# Altium footprint library SnapEDApcb.PcbLib: 1 footprints
Each footprint in its own frame and in the unit in brackets; x right, y up, seen from the top. Pads: shape width x height; smd on the part's side, far side on the other; paste and mask are expansions set on the pad; w line width, h text height; cw(c..) or ccw(c..) is an arc to the next point about the centre after c.
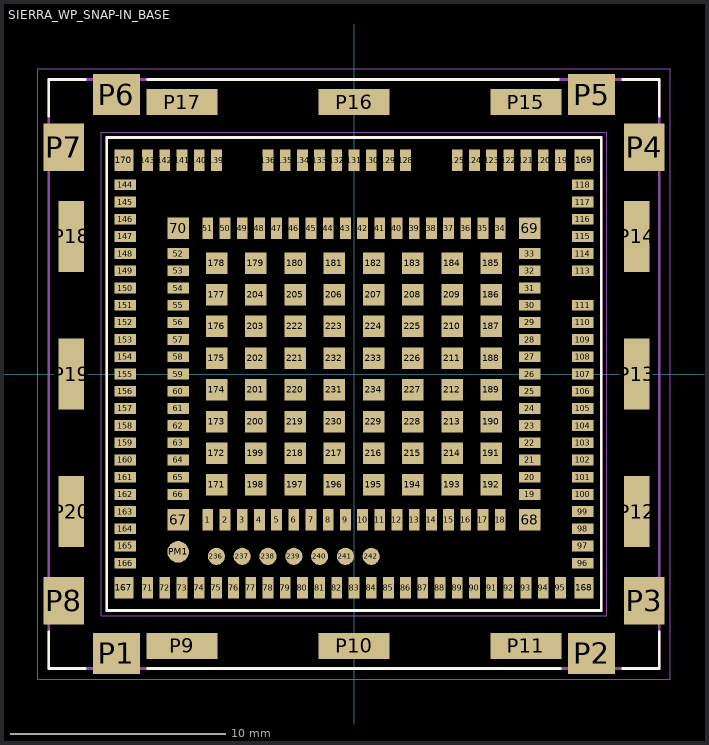
[diagram p0: the footprint, top view; thin cyan lines are the x and y axes]

## SIERRA_WP_SNAP-IN_BASE [mm]
pads (257):
  rect 0.5x1 smd paste-1: 1(-6.8,-6.78) 2(-6,-6.78) 3(-5.2,-6.78) 4(-4.4,-6.78) 5(-3.6,-6.78) 6(-2.8,-6.78) 7(-2,-6.78) 8(-1.2,-6.78) 9(-0.4,-6.78) 10(0.4,-6.78) 11(1.2,-6.78) 12(2,-6.78) 13(2.8,-6.78) 14(3.6,-6.78) 15(4.4,-6.78) 16(5.2,-6.78) 17(6,-6.78) 18(6.8,-6.78) 34(6.8,6.78) 35(6,6.78) 36(5.2,6.78) 37(4.4,6.78) 38(3.6,6.78) 39(2.8,6.78) 40(2,6.78) 41(1.2,6.78) 42(0.4,6.78) 43(-0.4,6.78) 44(-1.2,6.78) 45(-2,6.78) 46(-2.8,6.78) 47(-3.6,6.78) 48(-4.4,6.78) 49(-5.2,6.78) 50(-6,6.78) 51(-6.8,6.78) 71(-9.6,-9.95) 72(-8.8,-9.95) 73(-8,-9.95) 74(-7.2,-9.95) 75(-6.4,-9.95) 76(-5.6,-9.95) 77(-4.8,-9.95) 78(-4,-9.95) 79(-3.2,-9.95) 80(-2.4,-9.95) 81(-1.6,-9.95) 82(-0.8,-9.95) 83(0,-9.95) 84(0.8,-9.95) 85(1.6,-9.95) 86(2.4,-9.95) 87(3.2,-9.95) 88(4,-9.95) 89(4.8,-9.95) 90(5.6,-9.95) 91(6.4,-9.95) 92(7.2,-9.95) 93(8,-9.95) 94(8.8,-9.95) 95(9.6,-9.95) 119(9.6,9.95) 120(8.8,9.95) 121(8,9.95) 122(7.2,9.95) 123(6.4,9.95) 124(5.6,9.95) 125(4.8,9.95) 128(2.4,9.95) 129(1.6,9.95) 130(0.8,9.95) 131(0,9.95) 132(-0.8,9.95) 133(-1.6,9.95) 134(-2.4,9.95) 135(-3.2,9.95) 136(-4,9.95) 139(-6.4,9.95) 140(-7.2,9.95) 141(-8,9.95) 142(-8.8,9.95) 143(-9.6,9.95)
  rect 1x0.5 smd paste-1: 19(8.18,-5.6) 20(8.18,-4.8) 21(8.18,-4) 22(8.18,-3.2) 23(8.18,-2.4) 24(8.18,-1.6) 25(8.18,-0.8) 26(8.18,0) 27(8.18,0.8) 28(8.18,1.6) 29(8.18,2.4) 30(8.18,3.2) 31(8.18,4) 32(8.18,4.8) 33(8.18,5.6) 52(-8.18,5.6) 53(-8.18,4.8) 54(-8.18,4) 55(-8.18,3.2) 56(-8.18,2.4) 57(-8.18,1.6) 58(-8.18,0.8) 59(-8.18,0) 60(-8.18,-0.8) 61(-8.18,-1.6) 62(-8.18,-2.4) 63(-8.18,-3.2) 64(-8.18,-4) 65(-8.18,-4.8) 66(-8.18,-5.6) 96(10.65,-8.8) 97(10.65,-8) 98(10.65,-7.2) 99(10.65,-6.4) 100(10.65,-5.6) 101(10.65,-4.8) 102(10.65,-4) 103(10.65,-3.2) 104(10.65,-2.4) 105(10.65,-1.6) 106(10.65,-0.8) 107(10.65,0) 108(10.65,0.8) 109(10.65,1.6) 110(10.65,2.4) 111(10.65,3.2) 113(10.65,4.8) 114(10.65,5.6) 115(10.65,6.4) 116(10.65,7.2) 117(10.65,8) 118(10.65,8.8) 144(-10.65,8.8) 145(-10.65,8) 146(-10.65,7.2) 147(-10.65,6.4) 148(-10.65,5.6) 149(-10.65,4.8) 150(-10.65,4) 151(-10.65,3.2) 152(-10.65,2.4) 153(-10.65,1.6) 154(-10.65,0.8) 155(-10.65,0) 156(-10.65,-0.8) 157(-10.65,-1.6) 158(-10.65,-2.4) 159(-10.65,-3.2) 160(-10.65,-4) 161(-10.65,-4.8) 162(-10.65,-5.6) 163(-10.65,-6.4) 164(-10.65,-7.2) 165(-10.65,-8) 166(-10.65,-8.8)
  rect 1x1 smd paste-1: 67(-8.18,-6.78) 68(8.18,-6.78) 69(8.18,6.78) 70(-8.18,6.78) 171(-6.388,-5.162) 172(-6.388,-3.688) 173(-6.388,-2.213) 174(-6.388,-0.737) 175(-6.388,0.737) 176(-6.388,2.213) 177(-6.388,3.688) 178(-6.388,5.162) 179(-4.563,5.162) 180(-2.738,5.162) 181(-0.913,5.162) 182(0.913,5.162) 183(2.738,5.162) 184(4.563,5.162) 185(6.388,5.162) 186(6.388,3.688) 187(6.388,2.213) 188(6.388,0.737) 189(6.388,-0.737) 190(6.388,-2.213) 191(6.388,-3.688) 192(6.388,-5.162) 193(4.563,-5.162) 194(2.738,-5.162) 195(0.913,-5.162) 196(-0.913,-5.162) 197(-2.738,-5.162) 198(-4.563,-5.162) 199(-4.563,-3.688) 200(-4.563,-2.213) 201(-4.563,-0.737) 202(-4.563,0.737) 203(-4.563,2.213) 204(-4.563,3.688) 205(-2.738,3.688) 206(-0.913,3.688) 207(0.913,3.688) 208(2.738,3.688) 209(4.563,3.688) 210(4.563,2.213) 211(4.563,0.737) 212(4.563,-0.737) 213(4.563,-2.213) 214(4.563,-3.688) 215(2.738,-3.688) 216(0.913,-3.688) 217(-0.913,-3.688) 218(-2.738,-3.688) 219(-2.738,-2.213) 220(-2.738,-0.737) 221(-2.738,0.737) 222(-2.738,2.213) 223(-0.913,2.213) 224(0.913,2.213) 225(2.738,2.213) 226(2.738,0.737) 227(2.738,-0.737) 228(2.738,-2.213) 229(0.913,-2.213) 230(-0.913,-2.213) 231(-0.913,-0.737) 232(-0.913,0.737) 233(0.913,0.737) 234(0.913,-0.737)
  rect 0.9x1 smd paste-1: 167(-10.7,-9.95) 168(10.7,-9.95) 169(10.7,9.95) 170(-10.7,9.95)
  round 0.8 smd paste-1: 236(-6.4,-8.48) 237(-5.2,-8.48) 238(-4,-8.48) 239(-2.8,-8.48) 240(-1.6,-8.48) 241(-0.4,-8.48) 242(0.8,-8.48)
  rect 2.2x1.9 smd paste-2: P1(-11.05,-13) P2(11.05,-13) P5(11.05,13) P6(-11.05,13)
  rect 1.9x2.2 smd paste-2: P3(13.5,-10.55) P4(13.5,10.55) P7(-13.5,10.55) P8(-13.5,-10.55)
  rect 3.3x1.2 smd paste-3: P9(-8,-12.65) P10(0,-12.65) P11(8,-12.65) P15(8,12.65) P16(0,12.65) P17(-8,12.65)
  rect 1.2x3.3 smd paste-3: P12(13.15,-6.4) P13(13.15,0) P14(13.15,6.4) P18(-13.15,6.4) P19(-13.15,0) P20(-13.15,-6.4)
  round 1 smd paste-1: PM1(-8.18,-8.275)
Top Overlay:
  lines w0.127: -14.2,-12 -14.2,-13.7 -12.5,-13.7 ; -14.2,12 -14.2,13.7 -12.5,13.7 ; -9.6,-13.7 9.6,-13.7 ; -9.6,13.7 9.5,13.7 ; 12.5,-13.7 14.2,-13.7 14.2,-12 ; 12.5,13.7 14.2,13.7 14.2,12 ; -11.5,-11 11.5,-11 11.5,11 -11.5,11 -11.5,-11
Top Paste:
  drawing of 227 lines, arcs and shapes, not listed
Mechanical 13:
  lines w0.127: -14.2,-13.7 -14.2,13.7 14.2,13.7 14.2,-13.7 -14.2,-13.7 ; -11.5,-11 11.5,-11 11.5,11 -11.5,11 -11.5,-11
Mechanical 15:
  lines w0.05: -14.7,-14.2 14.7,-14.2 14.7,14.2 -14.7,14.2 -14.7,-14.2 ; -11.75,-11.25 11.75,-11.25 11.75,11.25 -11.75,11.25 -11.75,-11.25